# EAGLE library part JUMP-3PX2 (library elockMB)
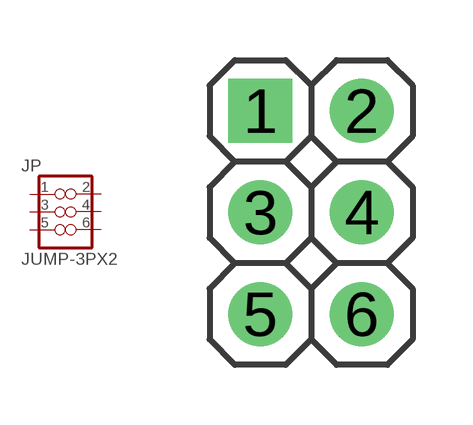
[diagram p1: symbol with the pads of 2X03; footprint 2X03]

Designator prefix JP

## JUMP-3PX2  [2X03]
1  1  pas
2  2  pas
3  3  pas
4  4  pas
5  5  pas
6  6  pas

## Footprint 2X03 (pad centres in mm)
drill 1 pad 1.6 square: 1 -1.27,2.54
drill 1 pad 1.6: 2 1.27,2.54; 3 -1.27,0; 4 1.27,0; 5 -1.27,-2.54; 6 1.27,-2.54